# EAGLE library part RA-CAY17-F8 (library MakBit)
Bourns CAY17-102JA 5,10 - common terminals
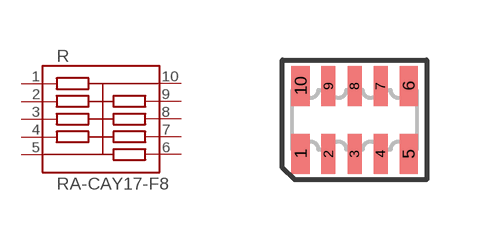
[diagram p15: symbol with the pads of RA-1206-X8; footprint RA-1206-X8]

Designator prefix R

## RA-CAY17-F8  [RA-1206-X8]
1  P.1  pas
2  P.2  pas
3  P.3  pas
4  P.4  pas
5  COM  pas
6  P.6  pas
7  P.7  pas
8  P.8  pas
9  P.9  pas
10  COM  pas

## Footprint RA-1206-X8 (pad centres in mm)
BOURNS Bussed Resistor Array CAT17 - Bussed array JA - Common from terminal 5 to 10 JB - Common from terminal 1 to 6
smd 0.45 x 1: 1 -1.35,-0.85; 5 1.35,-0.85; 6 1.35,0.85; 10 -1.35,0.85
smd 0.35 x 1: 2 -0.65,-0.85; 3 0,-0.85; 4 0.65,-0.85; 7 0.65,0.85; 8 0,0.85; 9 -0.65,0.85